# Altium schematic symbol library IRFB7437.SchLib: 1 symbol
Pins are listed as number, name and electrical type; pins without a type are passive.

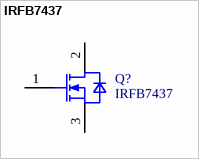
[diagram p0: symbol IRFB7437]

## IRFB7437
designator Q?
OptiMOS 3 Power-Transistor, VDS 100V; Manufacturer: Infineon Technologies; Manufacturer Order Number: IRFB7437; PackageReference: PG-TO220-3-904
pins: 1 GATE, 2 DRAIN, 3 SOURCE